# Altium schematic symbol library espTrava.SchLib: 18 symbols
Pins are listed as number, name and electrical type; pins without a type are passive.

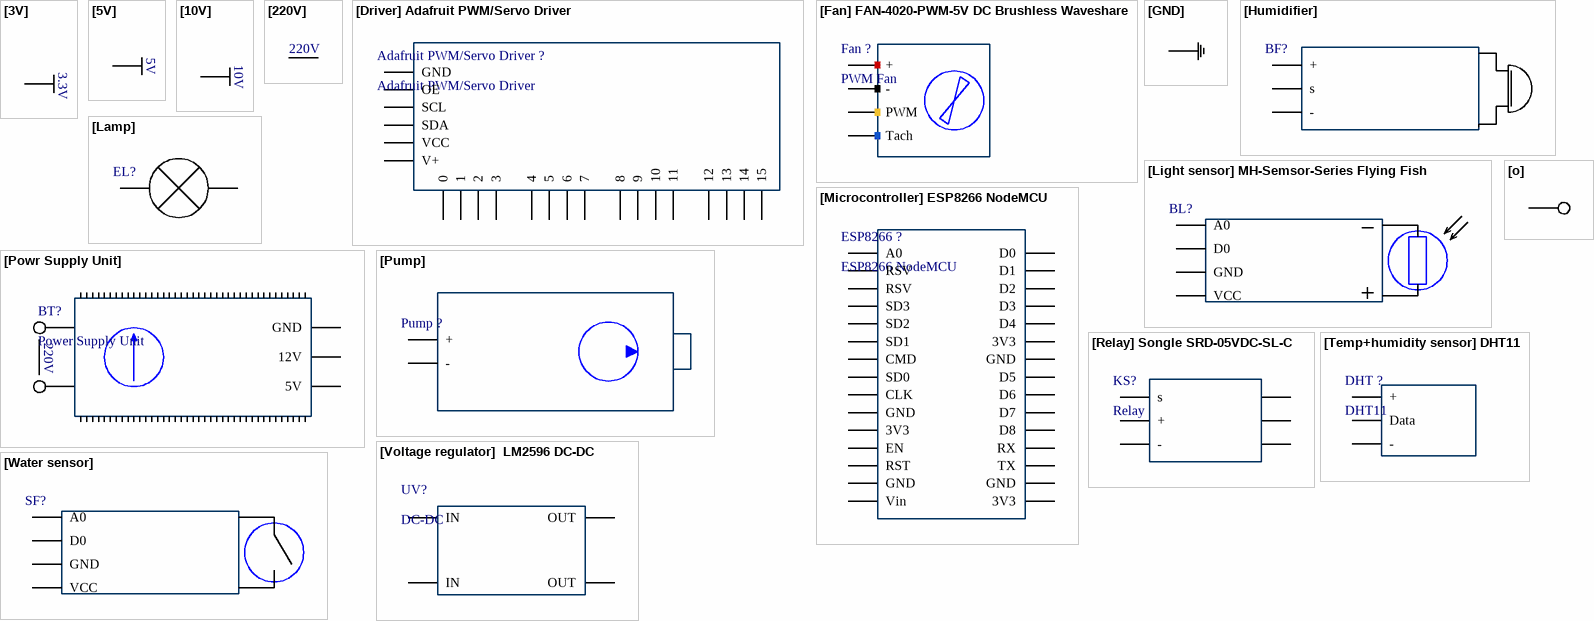
[diagram p0: symbols [3V] to [Water sensor]]

## [3V]
designator 3V  (value not drawn)
pins: 1 +
text: 3.3V

## [5V]
designator 5V  (value not drawn)
pins: 1 +

## [10V]
designator *  (value not drawn)
pins: 1 +
text: 10V

## [220V]
designator *  (value not drawn)
text: 220V

## [Driver] Adafruit PWM/Servo Driver
designator Adafruit PWM/Servo Driver ?, comment Adafruit PWM/Servo Driver
pins: 1 GND, 2 OE, 3 SCL, 4 SDA, 5 VCC, 6 V+, 7 0, 8 1, 9 2, 10 3, 11 4, 12 5, 13 6, 14 7, 15 8, 16 9, 17 10, 18 11, 18 12, 20 13, 21 14, 22 15

## [Fan] FAN-4020-PWM-5V DC Brushless Waveshare
designator Fan ?, comment PWM Fan
pins: 1 +, 2 -, 3 PWM, 4 Tach

## [GND]
designator GND  (value not drawn)
pins: 1 -

## [Humidifier]
designator BF?, comment Humidifier-Ruzzer  (value not drawn)
pins: 1 +, 2 s, 3 -

## [Lamp]
designator EL?  (value not drawn)
pins: 1, 1

## [Light sensor] MH-Semsor-Series Flying Fish
designator BL?  (value not drawn)
pins: 1 A0, 2 D0, 3 GND, 4 VCC

## [Microcontroller] ESP8266 NodeMCU
designator ESP8266 ?, comment ESP8266 NodeMCU
pins: 1 A0, 2 RSV, 3 RSV, 4 SD3, 5 SD2, 6 SD1, 7 CMD, 8 SD0, 9 CLK, 10 GND, 11 3V3, 12 EN, 13 RST, 14 GND, 15 Vin, 16 D0, 17 D1, 18 D2, 19 D3, 20 D4, 21 3V3, 22 GND, 23 D5, 24 D6, 25 D7, 26 D8, 27 RX, 28 TX, 29 GND, 30 3V3

## [o]
designator o  (value not drawn)
pins: 1 o

## [Powr Supply Unit]
designator BT?, comment Power Supply Unit
pins: 1 5V, 2 12V, 2 GND
text: 220V

## [Pump]
designator Pump ?  (value not drawn)
pins: 1 +, 2 -

## [Relay] Songle SRD-05VDC-SL-C
designator KS?, comment Relay
pins: 1 s, 2 +, 3 -, 4 o, 5 o, 6 o

## [Temp+humidity sensor] DHT11
designator DHT ?, comment DHT11
pins: 1 +, 2 Data, 3 -

## [Voltage regulator]  LM2596 DC-DC
designator UV?, comment DC-DC
pins: 1 IN, 2 IN, 3 OUT, 4 OUT

## [Water sensor]
designator SF?, comment Reed Switch water sensor  (value not drawn)
pins: 1 A0, 2 D0, 3 GND, 4 VCC